# EAGLE library part AKTIVE-FILTER-LOW-PASS (library 1A-meinLib)
Steckplatine für aktives Filter, Op34, Steckkontack ähnlich Isolationsverstärker
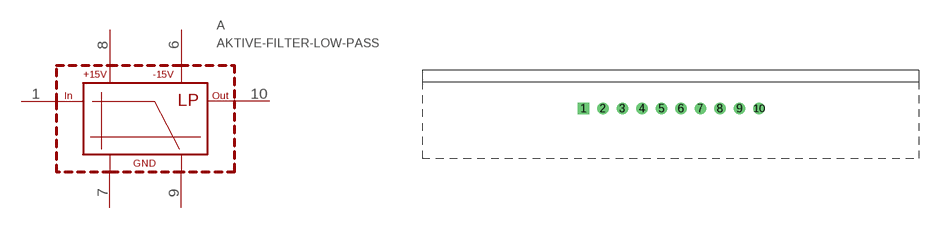
[diagram p267: symbol with the pads of FILTER_LOW-PASS_5-POLIG; footprint FILTER_LOW-PASS_5-POLIG]

Designator prefix A

## AKTIVE-FILTER-LOW-PASS  [FILTER_LOW-PASS_5-POLIG]
1  INPUT  in
6  -15V  pwr
7  GND1  pwr
8  +15V  pwr
9  GND2  pwr
10  OUT  pas

## Footprint FILTER_LOW-PASS_5-POLIG (pad centres in mm)
Platine für 5-poliges Sallen-Key-Low-Pass-Filter. 64.7mm x 40.3mm. Obere Grenzfrequenz ist abhängig von OpAmp-Typ. Op34
drill 1 square: 1 0,0
drill 1 round: 2 2.54,0; 3 5.08,0; 4 7.62,0; 5 10.16,0; 6 12.7,0; 7 15.24,0; 8 17.78,0; 9 20.32,0; 10 22.86,0